# EAGLE library part AT97SC3205 (library TPM)
Atmel TPM 1.2
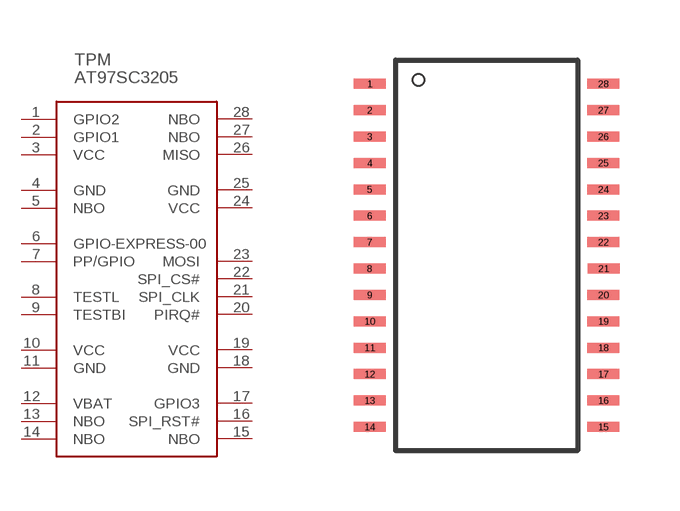
[diagram p0: symbol with the pads of TSSOP28; footprint TSSOP28]

Designator prefix TPM

## AT97SC3205  [TSSOP28]
1  GPIO2
2  GPIO1
3  VCC  pwr
4  GND  pwr
5  NBO
6  GPIO-EXPRESS-00  pwr
7  PP/GPIO
8  TESTL
9  TESTBI
10  VCC  pwr
11  GND  pwr
12  VBAT
13  NBO
14  NBO
15  NBO
16  SPI_RST#
17  GPIO3  pwr
18  GND  pwr
19  VCC  pwr
20  PIRQ#  pwr
21  SPI_CLK
22  SPI_CS#  pwr
23  MOSI  pwr
24  VCC  pwr
25  GND  pwr
26  MISO  pwr
27  NBO
28  NBO

## Footprint TSSOP28 (pad centres in mm)
smd 0.8 x 0.25: 1 -2.921,4.623; 2 -2.921,3.962; 3 -2.921,3.302; 4 -2.921,2.642; 5 -2.921,1.981; 6 -2.921,1.321; 7 -2.921,0.66; 8 -2.927,0; 9 -2.921,-0.66; 10 -2.921,-1.321; 11 -2.921,-1.981; 12 -2.921,-2.642; 13 -2.921,-3.302; 14 -2.921,-3.962; 15 2.921,-3.962; 16 2.921,-3.302; 17 2.921,-2.642; 18 2.921,-1.981; 19 2.921,-1.321; 20 2.921,-0.66; 21 2.927,0; 22 2.921,0.66; 23 2.921,1.321; 24 2.921,1.981; 25 2.921,2.642; 26 2.921,3.302; 27 2.921,3.962; 28 2.921,4.623